# Altium footprint library 5015681307.PcbLib: 1 footprints
Each footprint in its own frame and in the unit in brackets; x right, y up, seen from the top. Pads: shape width x height; smd on the part's side, far side on the other; paste and mask are expansions set on the pad; w line width, h text height; cw(c..) or ccw(c..) is an arc to the next point about the centre after c.
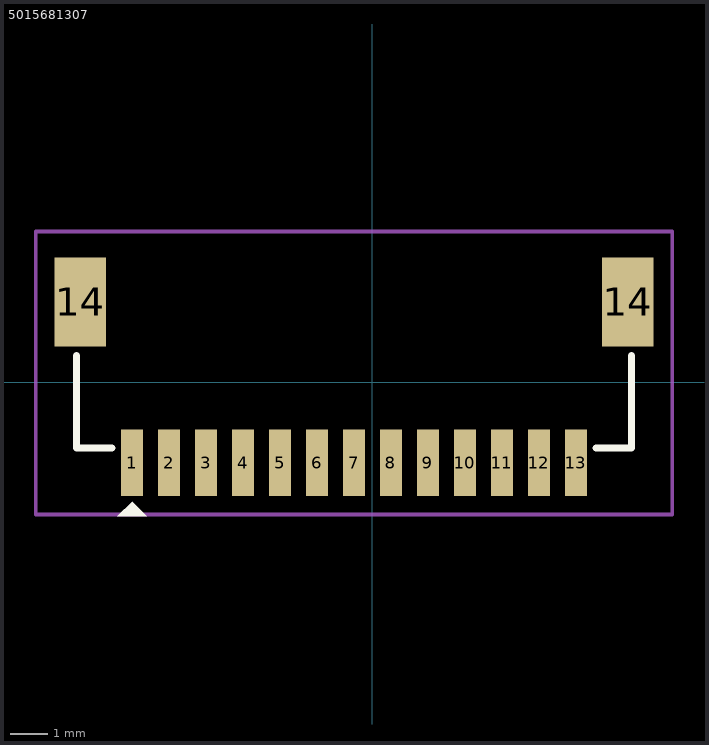
[diagram p0: the footprint, top view; thin cyan lines are the x and y axes]

## 5015681307 [mm]
pads (15):
  rect 0.6x1.8 smd: 1(-6.5,-2.175) 2(-5.5,-2.175) 3(-4.5,-2.175) 4(-3.5,-2.175) 5(-2.5,-2.175) 6(-1.5,-2.175) 7(-0.5,-2.175) 8(0.5,-2.175) 9(1.5,-2.175) 10(2.5,-2.175) 11(3.5,-2.175) 12(4.5,-2.175) 13(5.5,-2.175)
  rect 1.4x2.4 smd: 14(-7.9,2.175) 14(6.9,2.175)
Top Overlay:
  region: -6.1,-3.625 -6.9,-3.625 -6.5,-3.225
  lines w0.2: -8,0.725 -8,-1.775 -7.05,-1.775 ; 6.05,-1.775 7,-1.775 7,0.725
Top Courtyard:
  lines w0.1: -9.1,0.975 -9.1,-3.575 ; -9.1,-3.575 8.1,-3.575 8.1,4.075 -9.1,4.075 -9.1,-3.575
3D body "5015681307.stp": height 4.71, standoff 0.01, extent -8,-2.325 7,3.575